# Altium footprint library ohmite_wa-t247-101e.PcbLib: 3 footprints
Each footprint in its own frame and in the unit in brackets; x right, y up, seen from the top. Pads: shape width x height; smd on the part's side, far side on the other; paste and mask are expansions set on the pad; w line width, h text height; cw(c..) or ccw(c..) is an arc to the next point about the centre after c.
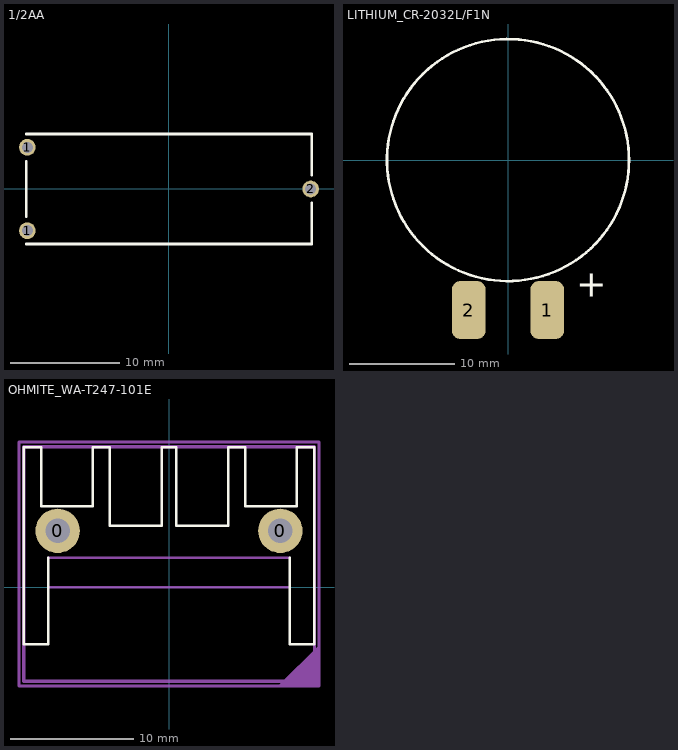
[diagram p0: the footprints below, top view; thin cyan lines are the x and y axes]

## 1/2AA [mm] "1/2AA TH BATTERY"
pads (3):
  round 1.524 hole 1: 1(-12.9,-3.8) 1(-12.9,3.8) 2(12.9,0)
Top Overlay:
  lines w0.254: -13,-5 13,-5 13,-1.25 ; -13,-2.5 -13,2.5 ; -13,5 13,5 13,1.25
3D body: height 8, standoff 0, extent -12.75,-4.75 12.75,4.75

## LITHIUM_CR-2032L/F1N [mm] "BATTERY LITHIUM COIN 3V W/TABS"
pads (2):
  rrect50% 3.2x5.5 smd: 1(3.725,-14.25) 2(-3.725,-14.25)
Top Overlay:
  circle w0.254: c0,0 r11.5
  text "+" at 6.5,-13 h2.54
3D body: height 4, standoff 0, extent -10.048,-9.98 9.873,9.98

## OHMITE_WA-T247-101E [mm]
pads (2):
  round 3.6 hole 2: 0(-9.05,4.6) 0(9.05,4.6)
Top Overlay:
  lines w0.2: -9.8,2.4 -9.8,-4.6 -11.811,-4.6 -11.811,11.4 -10.4,11.4 -10.4,6.6 -6.2,6.6 -6.2,11.4 -4.8,11.4 -4.8,5 -0.6,5 -0.6,11.4 0.6,11.4 0.6,5 4.8,5 4.8,11.4 6.2,11.4 6.2,6.6 10.4,6.6 10.4,11.4 11.811,11.4 11.811,-4.6 9.8,-4.6 9.8,2.4
Top 3D Body:
  lines w0.2: -9.8,0 9.8,0 ; -9.8,2.4 9.8,2.4
  lines w0.254: -11.811,-7.62 -11.811,11.43 11.811,11.43 11.811,-7.62 -11.811,-7.62
  text "TO-package hole line" at -4.775,-0.808 h0.5
  text "SPRING CLIP CLEARANCE" at -4.955,-6.479 h0.5
  text "MATING FACE" at -2.575,2.725 h0.5
Top Courtyard:
  region: 12.192,-8.001 8.89,-8.001 12.192,-4.699
  lines w0.254: -12.192,-8.001 -12.192,11.811 12.192,11.811 12.192,-8.001 -12.192,-8.001
Top Designator (Mech17):
  text ".Designator" at -4.946,3.993 h1.02
3D body "WA-T247-101E.step": height 32.02, standoff -3.54, extent -11.684,-4.6 11.684,11.402